# Altium footprint library TypeC4Pin.PcbLib: 1 footprints
Each footprint in its own frame and in the unit in brackets; x right, y up, seen from the top. Pads: shape width x height; smd on the part's side, far side on the other; paste and mask are expansions set on the pad; w line width, h text height; cw(c..) or ccw(c..) is an arc to the next point about the centre after c.
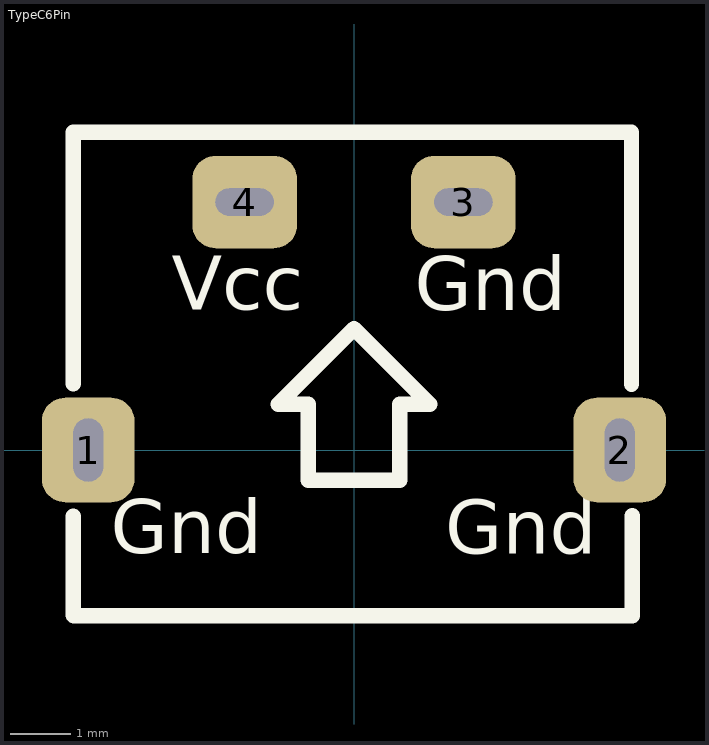
[diagram p0: the footprint, top view; thin cyan lines are the x and y axes]

## TypeC6Pin [mm]
pads (4):
  rrect50% 1.524x1.724 hole 1.04 slot 0.5 at 0 deg: 1(-4.375,0) 2(4.375,0)
  rrect50% 1.724x1.524 hole 0.45 slot 0.96 at 0 deg: 3(1.8,4.08) 4(-1.8,4.08)
Top Overlay:
  lines w0.254: -4.62,1.091 -4.62,5.228 4.549,5.228 4.558,5.219 ; -4.619,-1.089 -4.619,-2.721 -4.614,-2.726 4.58,-2.726 4.58,-1.086 4.578,-1.084 ; 4.567,1.08 4.567,5.228 ; -1.25,0.75 -0.75,0.75 -0.75,-0.5 0.75,-0.5 0.75,0.75 1.25,0.75 0,2 -1.25,0.75
  text "Gnd" at 1.5,-2 h1.52
  text "Gnd" at -4.001,-1.999 h1.52
  text "Gnd" at 0.999,2.001 h1.52
  text "Vcc" at -2.999,2.016 h1.52
3D body "Type C 4Pin.stp": height 3.2, standoff -1.27, extent -4.622,-2.724 4.578,5.226